# Altium footprint library PAL.PcbLib: 183 footprints (part 10 of 12)
Each footprint in its own frame and in the unit in brackets; x right, y up, seen from the top. Pads: shape width x height; smd on the part's side, far side on the other; paste and mask are expansions set on the pad; w line width, h text height; cw(c..) or ccw(c..) is an arc to the next point about the centre after c.
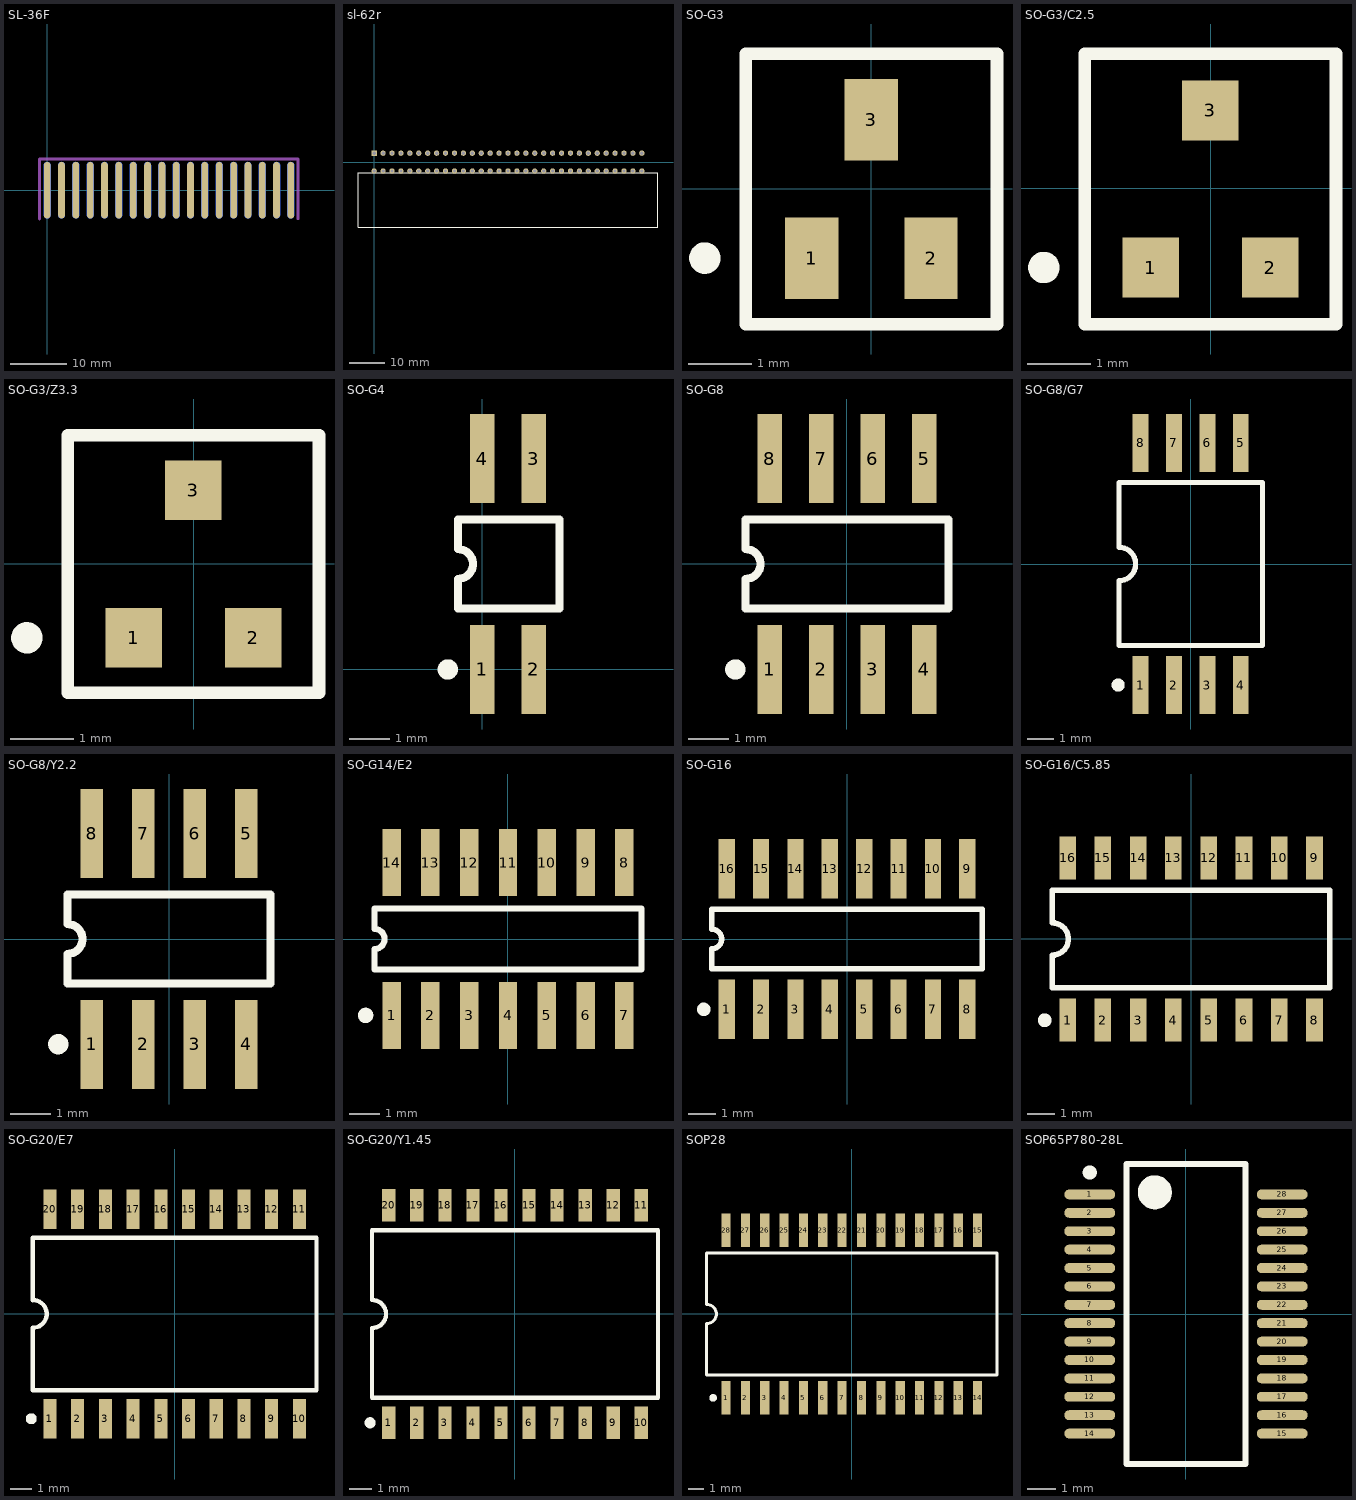
[diagram p9: the footprints below, top view; thin cyan lines are the x and y axes]

## SL-36F [mm]
pads (36):
  oval 1.2x10 smd: 1(0,0) 3(2.55,0) 5(5.075,0) 7(7.625,0) 9(10.15,0) 11(12.675,0) 13(15.25,0) 15(17.8,0) 17(20.325,0) 19(22.875,0) 21(25.4,0) 23(27.925,0) 25(30.5,0) 27(33.05,0) 29(35.575,0) 31(38.125,0) 33(40.65,0) 35(43.175,0)
  oval 1.2x10 smd far side: 2(0,0) 4(2.55,0) 6(5.075,0) 8(7.625,0) 10(10.15,0) 12(12.7,0) 14(15.25,0) 16(17.8,0) 18(20.325,0) 20(22.875,0) 22(25.4,0) 24(27.925,0) 26(30.5,0) 28(33.05,0) 30(35.575,0) 32(38.125,0) 34(40.675,0) 36(43.175,0)
Mechanical 1:
  lines w0.5: -1.375,-5.1 -1.375,5.525 44.45,5.525 44.475,5.5 44.475,-5.05

## sl-62r [mm]
pads (62):
  rect 1.5x1.5 hole 0.95: 1(0,2.56)
  round 1.5 hole 0.95: 2(0,-2.53) 3(2.54,2.56) 4(2.54,-2.53) 5(5.08,2.56) 6(5.08,-2.53) 7(7.62,2.56) 8(7.62,-2.53) 9(10.16,2.56) 10(10.16,-2.53) 11(12.7,2.56) 12(12.7,-2.53) 13(15.24,2.56) 14(15.24,-2.53) 15(17.78,2.56) 16(17.78,-2.53) 17(20.32,2.56) 18(20.32,-2.53) 19(22.86,2.56) 20(22.86,-2.53) 21(25.4,2.56) 22(25.4,-2.53) 23(27.94,2.56) 24(27.94,-2.53) 25(30.48,2.56) 26(30.48,-2.53) 27(33.02,2.56) 28(33.02,-2.53) 29(35.56,2.56) 30(35.56,-2.53) 31(38.1,2.56) 32(38.1,-2.53) 33(40.64,2.56) 34(40.64,-2.53) 35(43.18,2.56) 36(43.18,-2.53) 37(45.72,2.56) 38(45.72,-2.53) 39(48.26,2.56) 40(48.26,-2.53) 41(50.8,2.56) 42(50.8,-2.53) 43(53.35,2.55) 44(53.34,-2.53) 45(55.88,2.56) 46(55.88,-2.53) 47(58.42,2.56) 48(58.42,-2.53) 49(60.96,2.56) 50(60.96,-2.53) 51(63.5,2.56) 52(63.5,-2.53) 53(66.04,2.56) 54(66.04,-2.53) 55(68.58,2.56) 56(68.58,-2.53) 57(71.12,2.56) 58(71.12,-2.53) 59(73.66,2.56) 60(73.66,-2.53) 61(76.2,2.56) 62(76.2,-2.53)
Top Overlay:
  lines w0.25: -4.6,-18.6 -4.6,-2.95 80.8,-2.95 80.8,-18.6 -4.6,-18.6

## SO-G3 [mm]
pads (3):
  rect 0.85x1.3 smd: 1(-0.948,-1.102) 2(0.952,-1.102) 3(0.002,1.098)
Top Overlay:
  circle w0.25: c-2.648,-1.102 r0.125
  lines w0.2: -1.998,-2.152 2.002,-2.152 2.002,2.148 -1.998,2.148 -1.998,-2.152

## SO-G3/C2.5 [mm]
pads (3):
  rect 0.9x0.95 smd: 1(-0.958,-1.261) 2(0.942,-1.261) 3(-0.008,1.239)
Top Overlay:
  circle w0.25: c-2.658,-1.261 r0.125
  lines w0.2: -2.008,-2.161 -2.008,2.139 1.992,2.139 1.992,-2.161 -2.008,-2.161

## SO-G3/Z3.3 [mm]
pads (3):
  rect 0.9x0.95 smd: 1(-0.954,-1.179) 2(0.946,-1.179) 3(-0.004,1.171)
Top Overlay:
  circle w0.25: c-2.654,-1.179 r0.125
  lines w0.2: -2.004,-2.054 -2.004,2.046 1.996,2.046 1.996,-2.054 -2.004,-2.054

## SO-G4 [mm]
pads (4):
  rect 0.6x2.2 smd: 1(0.003,0) 2(1.273,0) 3(1.273,5.2) 4(0.003,5.2)
Top Overlay:
  circle w0.25: c-0.847,0 r0.125
  lines w0.2: -0.592,1.5 -0.592,2.233 ccw(c-0.592,2.6) -0.592,2.966 -0.592,3.7 1.908,3.7 1.908,1.5 -0.592,1.5

## SO-G8 [mm]
pads (8):
  rect 0.6x2.2 smd: 1(-1.902,-2.611) 2(-0.632,-2.611) 3(0.638,-2.611) 4(1.908,-2.611) 5(1.908,2.589) 6(0.638,2.589) 7(-0.632,2.589) 8(-1.902,2.589)
Top Overlay:
  circle w0.25: c-2.752,-2.611 r0.125
  lines w0.2: -2.497,-1.111 2.503,-1.111 2.503,1.089 -2.497,1.089 -2.497,0.356 cw(c-2.497,-0.011) -2.497,-0.377 -2.497,-1.111

## SO-G8/G7 [mm]
pads (8):
  rect 0.6x2.2 smd: 1(-1.905,-4.6) 2(-0.635,-4.6) 3(0.635,-4.6) 4(1.905,-4.6) 5(1.905,4.6) 6(0.635,4.6) 7(-0.635,4.6) 8(-1.905,4.6)
Top Overlay:
  circle w0.25: c-2.755,-4.6 r0.125
  lines w0.2: -2.725,-3.1 -2.725,-0.635 ccw(c-2.725,0) -2.725,0.635 -2.725,3.1 2.725,3.1 2.725,-3.1 -2.725,-3.1

## SO-G8/Y2.2 [mm]
pads (8):
  rect 0.55x2.2 smd: 1(-1.91,-2.588) 2(-0.64,-2.588) 3(0.63,-2.588) 4(1.9,-2.588) 5(1.9,2.612) 6(0.63,2.612) 7(-0.64,2.612) 8(-1.91,2.612)
Top Overlay:
  circle w0.25: c-2.735,-2.583 r0.125
  lines w0.2: -2.505,-1.088 -2.505,-0.355 ccw(c-2.505,0.012) -2.505,0.379 -2.505,1.112 2.495,1.112 2.495,-1.088 -2.505,-1.088

## SO-G14/E2 [mm]
pads (14):
  rect 0.6x2.2 smd: 1(-3.808,-2.494) 2(-2.538,-2.494) 3(-1.268,-2.494) 4(0.002,-2.494) 5(1.272,-2.494) 6(2.542,-2.494) 7(3.812,-2.494) 8(3.812,2.506) 9(2.542,2.506) 10(1.272,2.506) 11(0.002,2.506) 12(-1.268,2.506) 13(-2.538,2.506) 14(-3.808,2.506)
Top Overlay:
  circle w0.25: c-4.658,-2.494 r0.125
  lines w0.2: -4.373,-0.994 -4.373,-0.327 ccw(c-4.373,0.006) -4.373,0.34 -4.373,1.006 4.377,1.006 4.377,-0.994 -4.373,-0.994

## SO-G16 [mm]
pads (16):
  rect 0.6x2.2 smd: 1(-4.453,-2.589) 2(-3.183,-2.589) 3(-1.913,-2.589) 4(-0.643,-2.589) 5(0.627,-2.589) 6(1.897,-2.589) 7(3.167,-2.589) 8(4.437,-2.589) 9(4.437,2.611) 10(3.167,2.611) 11(1.897,2.611) 12(0.627,2.611) 13(-0.643,2.611) 14(-1.913,2.611) 15(-3.183,2.611) 16(-4.453,2.611)
Top Overlay:
  circle w0.25: c-5.303,-2.589 r0.125
  lines w0.2: -5.008,-1.089 4.992,-1.089 4.992,1.111 -5.008,1.111 -5.008,0.378 cw(c-5.008,0.011) -5.008,-0.356 -5.008,-1.089

## SO-G16/C5.85 [mm]
pads (16):
  rect 0.6x1.55 smd: 1(-4.452,-2.93) 2(-3.182,-2.93) 3(-1.912,-2.93) 4(-0.642,-2.93) 5(0.628,-2.93) 6(1.898,-2.93) 7(3.168,-2.93) 8(4.438,-2.93) 9(4.438,2.92) 10(3.168,2.92) 11(1.898,2.92) 12(0.628,2.92) 13(-0.642,2.92) 14(-1.912,2.92) 15(-3.182,2.92) 16(-4.452,2.92)
Top Overlay:
  circle w0.25: c-5.277,-2.93 r0.125
  lines w0.2: -5.007,-1.755 -5.007,-0.588 ccw(c-5.007,-0.005) -5.007,0.578 -5.007,1.745 4.993,1.745 4.993,-1.755 -5.007,-1.755

## SO-G20/E7 [mm]
pads (20):
  rect 0.6x1.8 smd: 1(-5.721,-4.803) 2(-4.451,-4.803) 3(-3.181,-4.803) 4(-1.911,-4.803) 5(-0.641,-4.803) 6(0.629,-4.803) 7(1.899,-4.803) 8(3.169,-4.803) 9(4.439,-4.803) 10(5.709,-4.803) 11(5.709,4.797) 12(4.439,4.797) 13(3.169,4.797) 14(1.899,4.797) 15(0.629,4.797) 16(-0.641,4.797) 17(-1.911,4.797) 18(-3.181,4.797) 19(-4.451,4.797) 20(-5.721,4.797)
Top Overlay:
  circle w0.25: c-6.581,-4.803 r0.125
  lines w0.2: -6.506,-0.638 -6.506,-3.503 6.494,-3.503 6.494,3.497 -6.506,3.497 -6.506,0.632 ; -6.506,-0.633 ccw(c-6.506,0.002) -6.506,0.637

## SO-G20/Y1.45 [mm]
pads (20):
  rect 0.6x1.45 smd: 1(-5.706,-4.925) 2(-4.436,-4.925) 3(-3.166,-4.925) 4(-1.896,-4.925) 5(-0.626,-4.925) 6(0.644,-4.925) 7(1.914,-4.925) 8(3.184,-4.925) 9(4.454,-4.925) 10(5.724,-4.925) 11(5.724,4.925) 12(4.454,4.925) 13(3.184,4.925) 14(1.914,4.925) 15(0.644,4.925) 16(-0.626,4.925) 17(-1.896,4.925) 18(-3.166,4.925) 19(-4.436,4.925) 20(-5.706,4.925)
Top Overlay:
  circle w0.25: c-6.556,-4.925 r0.125
  lines w0.2: -6.466,-3.8 -6.466,-0.635 ccw(c-6.466,0) -6.466,0.635 -6.466,3.8 6.484,3.8 6.484,-3.8 -6.466,-3.8

## SOP28 [mm]
pads (28):
  rect 0.6x2.2 smd: 1(-8.247,-5.502) 2(-6.977,-5.502) 3(-5.707,-5.502) 4(-4.437,-5.502) 5(-3.167,-5.502) 6(-1.897,-5.502) 7(-0.627,-5.502) 8(0.643,-5.502) 9(1.913,-5.502) 10(3.183,-5.502) 11(4.453,-5.502) 12(5.723,-5.502) 13(6.993,-5.502) 14(8.263,-5.502) 15(8.263,5.498) 16(6.993,5.498) 17(5.723,5.498) 18(4.453,5.498) 19(3.183,5.498) 20(1.913,5.498) 21(0.643,5.498) 22(-0.627,5.498) 23(-1.897,5.498) 24(-3.167,5.498) 25(-4.437,5.498) 26(-5.707,5.498) 27(-6.977,5.498) 28(-8.247,5.498)
Top Overlay:
  circle w0.25: c-9.097,-5.502 r0.125
  lines w0.2: -9.517,-4.002 -9.517,-0.637 ccw(c-9.517,-0.002) -9.517,0.633 -9.517,3.998 9.533,3.998 9.533,-4.002 -9.517,-4.002

## SOP65P780-28L [mm]
pads (28):
  oval 1.8x0.35 smd: 1(-3.396,4.231) 2(-3.396,3.581) 3(-3.396,2.931) 4(-3.396,2.281) 5(-3.396,1.631) 6(-3.396,0.981) 7(-3.396,0.331) 8(-3.396,-0.319) 9(-3.396,-0.969) 10(-3.396,-1.619) 11(-3.396,-2.269) 12(-3.396,-2.919) 13(-3.396,-3.569) 14(-3.396,-4.219) 15(3.404,-4.219) 16(3.404,-3.569) 17(3.404,-2.919) 18(3.404,-2.269) 19(3.404,-1.619) 20(3.404,-0.969) 21(3.404,-0.319) 22(3.404,0.331) 23(3.404,0.981) 24(3.404,1.631) 25(3.404,2.281) 26(3.404,2.931) 27(3.404,3.581) 28(3.404,4.231)
Top Overlay:
  circle w0.25: c-3.396,5.006 r0.125
  circle w0.6: c-1.096,4.306 r0.3
  lines w0.2: -2.096,-5.294 -2.096,5.306 2.104,5.306 2.104,-5.294 -2.096,-5.294